# Altium footprint library WR-CRD.PcbLib: 21 footprints (part 2 of 2)
Each footprint in its own frame and in the unit in brackets; x right, y up, seen from the top. Pads: shape width x height; smd on the part's side, far side on the other; paste and mask are expansions set on the pad; w line width, h text height; cw(c..) or ccw(c..) is an arc to the next point about the centre after c.
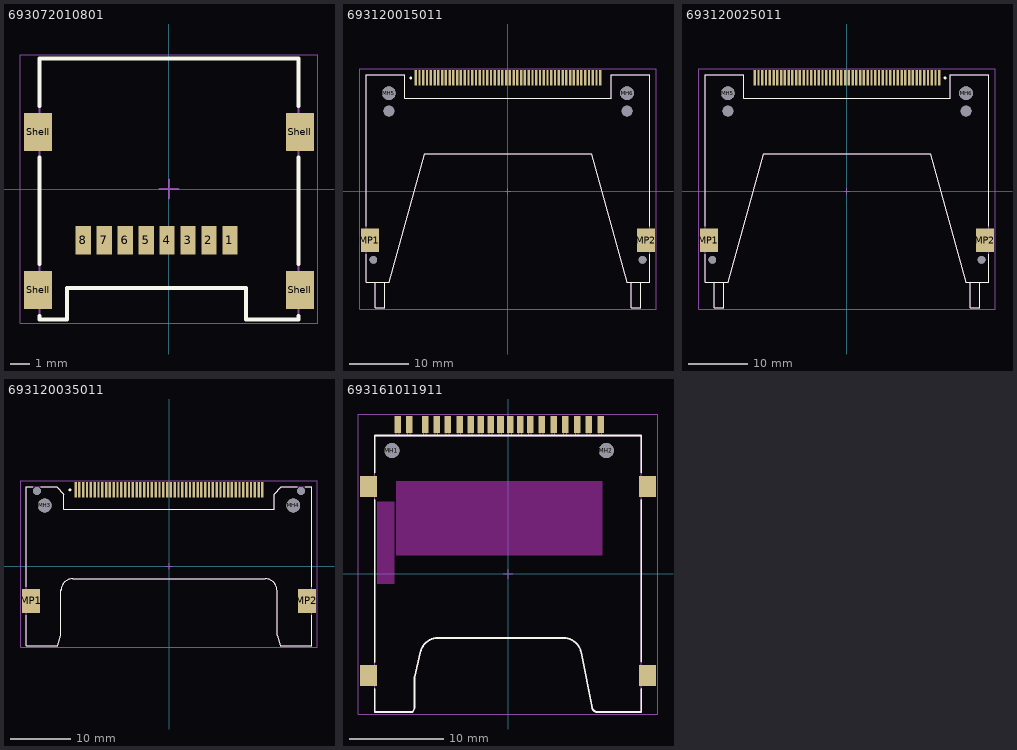
[diagram p1: the footprints below, top view; thin cyan lines are the x and y axes]

## 693072010801 [mm] "Micro SD Card Connector Hinge - 8 Pins"
height 1.75
pads (12):
  rect 0.8x1.5 smd: 1(3.2,-2.7) 2(2.1,-2.7) 3(1,-2.7) 4(-0.1,-2.7) 5(-1.2,-2.7) 6(-2.3,-2.7) 7(-3.4,-2.7) 8(-4.5,-2.7)
  rect 1.45x2 smd: Shell(-6.875,-5.3) Shell(-6.875,3) Shell(6.875,-5.3) Shell(6.875,3)
Top Overlay:
  lines w0.2: -6.8,-6.65 -6.8,-6.85 -5.35,-6.85 -5.35,-5.2 4.05,-5.2 4.05,-6.85 6.8,-6.85 6.8,-6.65 ; -6.8,-3.95 -6.8,1.65 ; -6.8,4.35 -6.8,6.85 6.8,6.85 6.8,4.35 ; 6.8,-3.95 6.8,1.65
Top Assembly:
  lines w0.1: -6.8,-6 -7.25,-6 -7.25,-4.6 -6.8,-4.6 ; -6.8,2.3 -7.25,2.3 -7.25,3.7 -6.8,3.7 ; 6.8,-6 7.25,-6 7.25,-4.6 6.8,-4.6 ; 6.8,2.3 7.25,2.3 7.25,3.7 6.8,3.7 ; -6.8,-6.85 -6.8,6.85 6.8,6.85 6.8,-6.85 4.05,-6.85 4.05,-5.2 -5.35,-5.2 -5.35,-6.85 -6.8,-6.85
Top Designator:
  text ".Designator" at -3.647,-0.357 h1
Top 3D Body:
  lines w0.1: -6.8,-6 -7.25,-6 -7.25,-4.6 -6.8,-4.6 ; -6.8,2.3 -7.25,2.3 -7.25,3.7 -6.8,3.7 ; 6.8,-6 7.25,-6 7.25,-4.6 6.8,-4.6 ; 6.8,2.3 7.25,2.3 7.25,3.7 6.8,3.7 ; -6.8,-6.85 -5.35,-6.85 -5.35,-5.2 4.05,-5.2 4.05,-6.85 6.8,-6.85 6.8,6.85 -6.8,6.85 -6.8,-6.85
Top Courtyard:
  lines w0.05: -7.8,-7.05 7.8,-7.05 7.8,7.05 -7.8,7.05 -7.8,-7.05
Top Component Center:
  lines w0.1: -0.5,0 0.5,0 ; 0,-0.5 0,0.5
3D body "693072010801.stp": height 1.79, standoff 0.02, extent -7.25,-6.85 7.25,6.85

## 693120015011 [mm] "Compact Flash Card Connector Header - Standard Type 50 Pins"
height 6.3
pads (58):
  rect 0.4x2.6 smd: 1(-15.557,19.145) 2(-14.287,19.145) 3(-13.018,19.145) 4(-11.747,19.145) 5(-10.477,19.145) 6(-9.207,19.145) 7(-7.938,19.145) 8(-6.667,19.145) 9(-5.397,19.145) 10(-4.127,19.145) 11(-2.857,19.145) 12(-1.587,19.145) 13(-0.318,19.145) 14(0.953,19.145) 15(2.222,19.145) 16(3.492,19.145) 17(4.763,19.145) 18(6.032,19.145) 19(7.302,19.145) 20(8.572,19.145) 21(9.842,19.145) 22(11.112,19.145) 23(12.383,19.145) 24(13.652,19.145) 25(14.922,19.145) 26(-14.922,19.145) 27(-13.652,19.145) 28(-12.383,19.145) 29(-11.112,19.145) 30(-9.842,19.145) 31(-8.572,19.145) 32(-7.302,19.145) 33(-6.032,19.145) 34(-4.763,19.145) 35(-3.492,19.145) 36(-2.222,19.145) 37(-0.953,19.145) 38(0.318,19.145) 39(1.587,19.145) 40(2.857,19.145) 41(4.127,19.145) 42(5.397,19.145) 43(6.667,19.145) 44(7.938,19.145) 45(9.207,19.145) 46(10.477,19.145) 47(11.747,19.145) 48(13.018,19.145) 49(14.287,19.145) 50(15.557,19.145)
  round 1.3 hole 1.3 unplated: MH1(-22.7,-11.555) MH2(22.7,-11.555)
  round 1.8 hole 1.8 unplated: MH3(-20.08,13.545) MH4(20.08,13.545)
  round 2.3 hole 2.3 unplated: MH5(-20.08,16.545) MH6(20.08,16.545)
  rect 3x4 smd: MP1(-23.295,-8.255) MP2(23.3,-8.255)
Top Overlay:
  circle w0.25: c-16.4,19.15 r0.125
  lines w0.2: -23.9,-10.605 -23.9,-15.355 -20,-15.355 -14.019,6.355 ; -23.9,-5.905 -23.9,19.645 -17.45,19.645 -17.45,15.745 17.45,15.745 17.45,19.645 23.9,19.645 23.9,-5.905 ; -22.35,-15.355 -22.35,-19.645 -20.75,-19.645 -20.75,-15.355 ; -14.019,6.355 14.019,6.355 ; 14.019,6.355 20,-15.355 23.9,-15.355 23.9,-10.605 ; 20.75,-15.355 20.75,-19.645 22.35,-19.645 22.35,-15.355
Top Assembly:
  lines w0.1: -22.35,-15.355 -22.35,-19.645 -20.75,-19.645 -20.75,-15.355 ; -14.019,6.355 14.019,6.355 ; -14.019,6.355 -20,-15.355 -23.9,-15.355 -23.9,19.645 -17.45,19.645 -17.45,15.745 17.45,15.745 17.45,19.645 23.9,19.645 23.9,-15.355 20,-15.355 14.019,6.355 ; 20.75,-15.355 20.75,-19.645 22.35,-19.645 22.35,-15.355
Top Designator:
  text ".Designator" at -3.647,-0.357 h1
Top 3D Body:
  lines w0.1: -22.35,-15.355 -22.35,-19.645 -20.75,-19.645 -20.75,-15.355 ; -14.019,6.355 14.019,6.355 ; -14.019,6.355 -20,-15.355 -23.9,-15.355 -23.9,19.645 -17.45,19.645 -17.45,15.745 17.45,15.745 17.45,19.645 23.9,19.645 23.9,-15.355 20,-15.355 14.019,6.355 ; 20.75,-15.355 20.75,-19.645 22.35,-19.645 22.35,-15.355
Top Courtyard:
  lines w0.05: -24.993,-19.845 24.997,-19.845 24.997,20.645 -24.993,20.645 -24.993,-19.845
Top Component Center:
  lines w0.1: -0.5,0 0.5,0 ; 0,-0.5 0,0.5
3D body "693120015011.stp": height 6.32, standoff -0.73, extent -23.9,-19.645 23.9,19.68

## 693120025011 [mm] "Compact Flash Card Connector Header - Reverse Type - 50 Pins"
height 6.3
pads (58):
  rect 0.4x2.6 smd: 1(15.557,19.145) 2(14.287,19.145) 3(13.018,19.145) 4(11.747,19.145) 5(10.477,19.145) 6(9.207,19.145) 7(7.938,19.145) 8(6.667,19.145) 9(5.397,19.145) 10(4.127,19.145) 11(2.857,19.145) 12(1.587,19.145) 13(0.318,19.145) 14(-0.953,19.145) 15(-2.222,19.145) 16(-3.492,19.145) 17(-4.763,19.145) 18(-6.032,19.145) 19(-7.302,19.145) 20(-8.572,19.145) 21(-9.842,19.145) 22(-11.112,19.145) 23(-12.383,19.145) 24(-13.652,19.145) 25(-14.922,19.145) 26(14.922,19.145) 27(13.652,19.145) 28(12.383,19.145) 29(11.112,19.145) 30(9.842,19.145) 31(8.572,19.145) 32(7.302,19.145) 33(6.032,19.145) 34(4.763,19.145) 35(3.492,19.145) 36(2.222,19.145) 37(0.953,19.145) 38(-0.318,19.145) 39(-1.587,19.145) 40(-2.857,19.145) 41(-4.127,19.145) 42(-5.397,19.145) 43(-6.667,19.145) 44(-7.938,19.145) 45(-9.207,19.145) 46(-10.477,19.145) 47(-11.747,19.145) 48(-13.018,19.145) 49(-14.287,19.145) 50(-15.557,19.145)
  round 1.3 hole 1.3 unplated: MH1(-22.7,-11.555) MH2(22.7,-11.555)
  round 1.8 hole 1.8 unplated: MH3(-20.08,13.545) MH4(20.08,13.545)
  round 2.3 hole 2.3 unplated: MH5(-20.08,16.545) MH6(20.08,16.545)
  rect 3x4 smd: MP1(-23.295,-8.255) MP2(23.3,-8.255)
Top Overlay:
  circle w0.25: c16.55,19.15 r0.125
  lines w0.2: -23.9,-10.605 -23.9,-15.355 -20,-15.355 -14.019,6.355 ; -23.9,-5.905 -23.9,19.645 -17.45,19.645 -17.45,15.745 17.45,15.745 17.45,19.645 23.9,19.645 23.9,-5.905 ; -22.35,-15.355 -22.35,-19.645 -20.75,-19.645 -20.75,-15.355 ; -14.019,6.355 14.019,6.355 ; 14.019,6.355 20,-15.355 23.9,-15.355 23.9,-10.605 ; 20.75,-15.355 20.75,-19.645 22.35,-19.645 22.35,-15.355
Top Assembly:
  lines w0.1: -22.35,-15.355 -22.35,-19.645 -20.75,-19.645 -20.75,-15.355 ; -14.019,6.355 14.019,6.355 ; -14.019,6.355 -20,-15.355 -23.9,-15.355 -23.9,19.645 -17.45,19.645 -17.45,15.745 17.45,15.745 17.45,19.645 23.9,19.645 23.9,-15.355 20,-15.355 14.019,6.355 ; 20.75,-15.355 20.75,-19.645 22.35,-19.645 22.35,-15.355
Top Designator:
  text ".Designator" at -3.647,-0.357 h1
Top 3D Body:
  lines w0.1: -22.35,-15.355 -22.35,-19.645 -20.75,-19.645 -20.75,-15.355 ; -14.019,6.355 14.019,6.355 ; -14.019,6.355 -20,-15.355 -23.9,-15.355 -23.9,19.645 -17.45,19.645 -17.45,15.745 17.45,15.745 17.45,19.645 23.9,19.645 23.9,-15.355 20,-15.355 14.019,6.355 ; 20.75,-15.355 20.75,-19.645 22.35,-19.645 22.35,-15.355
Top Courtyard:
  lines w0.05: -24.995,-19.845 24.995,-19.845 24.995,20.645 -24.995,20.645 -24.995,-19.845
Top Component Center:
  lines w0.1: -0.5,0 0.5,0 ; 0,-0.5 0,0.5
3D body "693120025011.stp": height 6.32, standoff -0.73, extent -23.9,-19.645 23.9,19.691

## 693120035011 [mm] "Compact Flash Card Connector Header - Shrouded Type - 50 Pins"
height 5.16
pads (56):
  rect 0.4x2.6 smd: 1(-15.558,12.75) 2(-14.288,12.75) 3(-13.018,12.75) 4(-11.748,12.75) 5(-10.478,12.75) 6(-9.208,12.75) 7(-7.938,12.75) 8(-6.668,12.75) 9(-5.398,12.75) 10(-4.128,12.75) 11(-2.858,12.75) 12(-1.588,12.75) 13(-0.318,12.75) 14(0.952,12.75) 15(2.222,12.75) 16(3.492,12.75) 17(4.762,12.75) 18(6.032,12.75) 19(7.302,12.75) 20(8.572,12.75) 21(9.842,12.75) 22(11.112,12.75) 23(12.382,12.75) 24(13.652,12.75) 25(14.922,12.75) 26(-14.923,12.75) 27(-13.653,12.75) 28(-12.383,12.75) 29(-11.113,12.75) 30(-9.843,12.75) 31(-8.573,12.75) 32(-7.303,12.75) 33(-6.033,12.75) 34(-4.763,12.75) 35(-3.493,12.75) 36(-2.223,12.75) 37(-0.953,12.75) 38(0.317,12.75) 39(1.587,12.75) 40(2.857,12.75) 41(4.127,12.75) 42(5.397,12.75) 43(6.667,12.75) 44(7.937,12.75) 45(9.207,12.75) 46(10.477,12.75) 47(11.747,12.75) 48(13.017,12.75) 49(14.287,12.75) 50(15.557,12.75)
  round 1.3 hole 1.3 unplated: MH1(-22,12.55) MH2(22,12.55)
  round 2.3 hole 2.3 unplated: MH3(-20.7,10.15) MH4(20.7,10.15)
  rect 3x4 smd: MP1(-22.98,-5.75) MP2(22.98,-5.75)
Top Overlay:
  circle w0.25: c-16.5,12.75 r0.125
  lines w0.2: -23.8,-8.1 -23.8,-13.25 -18.5,-13.25 ; -23.8,-3.4 -23.8,13.25 -22.65,13.25 ; -21.35,13.25 -18.7,13.25 -17.5,12.05 -17.5,9.55 17.5,9.55 17.5,12.05 18.7,13.25 21.35,13.25 ; -18.502,-13.249 -18,-11.45 -18,-3.85 ; -18,-4.05 cw(c-16,-4.05) -16,-2.05 16,-2.05 cw(c16,-4.05) 18,-4.05 18,-11.45 18.502,-13.249 ; 18.5,-13.25 23.8,-13.25 23.8,-8.1 ; 22.65,13.25 23.8,13.25 23.8,-3.4
Top Assembly:
  lines w0.1: -18.502,-13.249 -18,-11.45 -18,-3.85 ; -18.5,-13.25 -23.8,-13.25 -23.8,13.25 -18.7,13.25 -17.5,12.05 -17.5,9.55 17.5,9.55 17.5,12.05 18.7,13.25 23.8,13.25 23.8,-13.25 18.5,-13.25 ; -18,-4.05 cw(c-16,-4.05) -16,-2.05 16,-2.05 cw(c16,-4.05) 18,-4.05 18,-11.45 18.502,-13.249
Top Designator:
  text ".Designator" at -3.647,-0.357 h1
Top 3D Body:
  lines w0.1: -18.502,-13.249 -18,-11.45 -18,-3.85 ; -18.5,-13.25 -23.8,-13.25 -23.8,13.25 -18.7,13.25 -17.5,12.05 -17.5,9.55 17.5,9.55 17.5,12.05 18.7,13.25 23.8,13.25 23.8,-13.25 18.5,-13.25 ; -18,-4.05 cw(c-16,-4.05) -16,-2.05 16,-2.05 cw(c16,-4.05) 18,-4.05 18,-11.45 18.502,-13.249
Top Courtyard:
  lines w0.05: -24.68,-13.45 -24.68,14.25 24.68,14.25 24.68,-13.45 -24.68,-13.45
Top Component Center:
  lines w0.1: -0.5,0 0.5,0 ; 0,-0.5 0,0.5
3D body "693120035011.stp": height 6.82, standoff -0.58, extent -23.8,-13.25 23.8,13.25

## 693161011911 [mm] "SD 4.0 Card Connector Push & Push with Card Detection - 19 Pins"
height 3
pads (25):
  rect 0.7x1.8 smd: 1(9.85,15.9) 2(8.6,15.9) 3(7.35,15.9) 4(6.1,15.9) 5(4.85,15.9) 6(3.6,15.9) 7(2.35,15.9) 8(1.3,15.9) 9(0.25,15.9) 10(-0.8,15.9) 11(-1.84,15.9) 12(-2.9,15.9) 13(-3.94,15.9) 14(-5.15,15.9) 15(-6.39,15.9) 16(-7.59,15.9) 17(-8.82,15.9) 18(-10.52,15.9) 19(-11.72,15.9)
  round 1.6 hole 1.6 unplated: MH1(-12.35,13.1) MH2(10.45,13.1)
  rect 1.8x2.2 smd: Shell(-14.825,-10.8) Shell(-14.825,9.3) Shell(14.825,-10.8) Shell(14.825,9.3)
Top Layer keep-out:
  rectangle: -11.935,1.96 10.025,9.9
  rectangle: -13.925,-1.1 -12.075,7.7
Top Overlay:
  lines w0.2: -14.175,-12.25 -14.175,-14.7 -10.125,-14.7 ; -14.175,-9.4 -14.175,7.85 ; -14.175,10.75 -14.175,14.7 14.175,14.7 14.175,10.75 ; -10.125,-14.7 -9.925,-14.25 -9.925,-10.95 ; -9.92,-10.951 -9.333,-8.348 cw(c-7.385,-8.8) -7.186,-6.81 5.646,-6.81 cw(c5.845,-8.8) 7.793,-8.348 8.954,-14.267 ; 8.946,-14.268 ccw(c9.546,-14.068) 9.575,-14.7 14.175,-14.7 14.175,-12.25 ; 14.175,-9.35 14.175,7.85
Top Assembly:
  lines w0.1: -14.175,-11.6 -15.175,-11.6 -15.175,-10 -14.175,-10 ; -14.175,8.5 -15.175,8.5 -15.175,10.1 -14.175,10.1 ; -11.875,14.7 -11.875,16.3 -11.575,16.3 -11.575,14.7 ; -10.675,14.7 -10.675,16.3 -10.375,16.3 -10.375,14.7 ; -10.125,-14.7 -9.925,-14.25 -9.925,-10.95 ; -10.125,-14.7 -14.175,-14.7 -14.175,14.7 14.175,14.7 14.175,-14.7 9.575,-14.7 cw(c9.546,-14.068) 8.946,-14.268 ; -9.92,-10.951 -9.333,-8.348 cw(c-7.385,-8.8) -7.186,-6.81 5.646,-6.81 cw(c5.845,-8.8) 7.793,-8.348 8.954,-14.267 ; -8.975,14.7 -8.975,16.3 -8.675,16.3 -8.675,14.7 ; -7.745,14.7 -7.745,16.3 -7.445,16.3 -7.445,14.7 ; -6.545,14.7 -6.545,16.3 -6.245,16.3 -6.245,14.7 ; -5.305,14.7 -5.305,16.3 -5.005,16.3 -5.005,14.7 ; -4.095,14.7 -4.095,16.3 -3.795,16.3 -3.795,14.7 ; -3.055,14.7 -3.055,16.3 -2.755,16.3 -2.755,14.7 ; -1.995,14.7 -1.995,16.3 -1.695,16.3 -1.695,14.7 ; -0.955,14.7 -0.955,16.3 -0.655,16.3 -0.655,14.7 ; 0.095,14.7 0.095,16.3 0.395,16.3 0.395,14.7 ; 1.145,14.7 1.145,16.3 1.445,16.3 1.445,14.7 ; 2.195,14.7 2.195,16.3 2.495,16.3 2.495,14.7 ; 3.445,14.7 3.445,16.3 3.745,16.3 3.745,14.7 ; 4.695,14.7 4.695,16.3 4.995,16.3 4.995,14.7 ; 5.945,14.7 5.945,16.3 6.245,16.3 6.245,14.7 ; 7.195,14.7 7.195,16.3 7.495,16.3 7.495,14.7 ; 8.445,14.7 8.445,16.3 8.745,16.3 8.745,14.7 ; 9.695,14.7 9.695,16.3 9.995,16.3 9.995,14.7 ; 14.175,-11.6 15.175,-11.6 15.175,-10 14.175,-10 ; 14.175,8.5 15.175,8.5 15.175,10.1 14.175,10.1
Top Designator:
  text ".Designator" at -3.647,-0.357 h1
Top 3D Body:
  lines w0.1: -14.175,-11.6 -15.175,-11.6 -15.175,-10 -14.175,-10 ; -14.175,8.5 -15.175,8.5 -15.175,10.1 -14.175,10.1 ; -11.875,14.7 -11.875,16.3 -11.575,16.3 -11.575,14.7 ; -10.675,14.7 -10.675,16.3 -10.375,16.3 -10.375,14.7 ; -10.125,-14.7 -9.925,-14.25 -9.925,-10.95 ; -10.125,-14.7 -14.175,-14.7 -14.175,14.7 14.175,14.7 14.175,-14.7 9.575,-14.7 cw(c9.546,-14.068) 8.946,-14.268 ; -9.92,-10.951 -9.333,-8.348 cw(c-7.385,-8.8) -7.186,-6.81 5.646,-6.81 cw(c5.845,-8.8) 7.793,-8.348 8.954,-14.267 ; -8.975,14.7 -8.975,16.3 -8.675,16.3 -8.675,14.7 ; -7.745,14.7 -7.745,16.3 -7.445,16.3 -7.445,14.7 ; -6.545,14.7 -6.545,16.3 -6.245,16.3 -6.245,14.7 ; -5.305,14.7 -5.305,16.3 -5.005,16.3 -5.005,14.7 ; -4.095,14.7 -4.095,16.3 -3.795,16.3 -3.795,14.7 ; -3.055,14.7 -3.055,16.3 -2.755,16.3 -2.755,14.7 ; -1.995,14.7 -1.995,16.3 -1.695,16.3 -1.695,14.7 ; -0.955,14.7 -0.955,16.3 -0.655,16.3 -0.655,14.7 ; 0.095,14.7 0.095,16.3 0.395,16.3 0.395,14.7 ; 1.145,14.7 1.145,16.3 1.445,16.3 1.445,14.7 ; 2.195,14.7 2.195,16.3 2.495,16.3 2.495,14.7 ; 3.445,14.7 3.445,16.3 3.745,16.3 3.745,14.7 ; 4.695,14.7 4.695,16.3 4.995,16.3 4.995,14.7 ; 5.945,14.7 5.945,16.3 6.245,16.3 6.245,14.7 ; 7.195,14.7 7.195,16.3 7.495,16.3 7.495,14.7 ; 8.445,14.7 8.445,16.3 8.745,16.3 8.745,14.7 ; 9.695,14.7 9.695,16.3 9.995,16.3 9.995,14.7 ; 14.175,-11.6 15.175,-11.6 15.175,-10 14.175,-10 ; 14.175,8.5 15.175,8.5 15.175,10.1 14.175,10.1
Top Courtyard:
  lines w0.05: -15.925,-14.9 15.925,-14.9 15.925,17 -15.925,17 -15.925,-14.9
Top Component Center:
  lines w0.1: -0.5,0 0.5,0 ; 0,-0.5 0,0.5
3D body "693161011911.stp": height 3.05, standoff -0.75, extent -15.175,-14.7 15.175,16.3